# Altium schematic symbol library AP2502.SchLib: 1 symbol
Pins are listed as number, name and electrical type; pins without a type are passive.

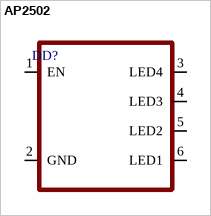
[diagram p0: symbol AP2502]

## AP2502
designator DD?
pins: 1 EN, 2 GND, 3 LED4, 4 LED3, 5 LED2, 6 LED1